# Altium footprint library PcbLib1.PcbLib: 1 footprints
Each footprint in its own frame and in the unit in brackets; x right, y up, seen from the top. Pads: shape width x height; smd on the part's side, far side on the other; paste and mask are expansions set on the pad; w line width, h text height; cw(c..) or ccw(c..) is an arc to the next point about the centre after c.
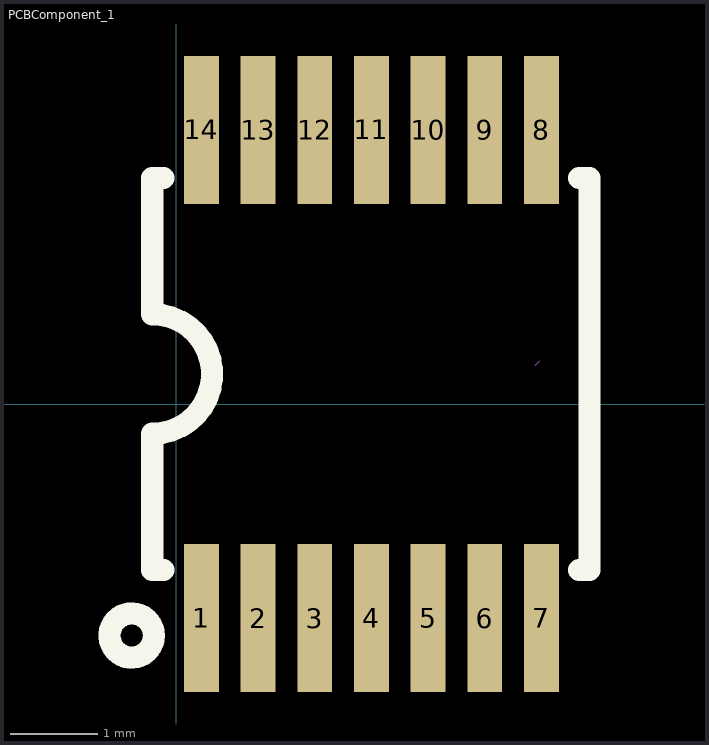
[diagram p0: the footprint, top view; thin cyan lines are the x and y axes]

## PCBComponent_1 [mm]
pads (14):
  rect 0.4x1.7 smd: 1(0.292,-2.452) 2(0.942,-2.452) 3(1.592,-2.452) 4(2.242,-2.452) 5(2.892,-2.452) 6(3.542,-2.452) 7(4.192,-2.452) 8(4.192,3.148) 9(3.542,3.148) 10(2.892,3.148) 11(2.242,3.148) 12(1.592,3.148) 13(0.942,3.148) 14(0.292,3.148)
Top Overlay:
  circle w0.254: c-0.508,-2.652 r0.254
  lines w0.254: -0.273,-1.902 -0.273,-1.252 -0.273,-0.338 ccw(c-0.273,0.348) -0.273,1.034 -0.273,1.948 -0.273,2.598 ; -0.258,-1.902 -0.142,-1.902 ; -0.258,2.598 -0.142,2.598 ; 4.626,-1.902 4.742,-1.902 4.742,2.598 4.626,2.598
Mechanical 15:
  lines w0.003: 4.124,0.45 4.174,0.5